# Altium footprint library Nucleo-F439ZI.PcbLib: 1 footprints
Each footprint in its own frame and in the unit in brackets; x right, y up, seen from the top. Pads: shape width x height; smd on the part's side, far side on the other; paste and mask are expansions set on the pad; w line width, h text height; cw(c..) or ccw(c..) is an arc to the next point about the centre after c.
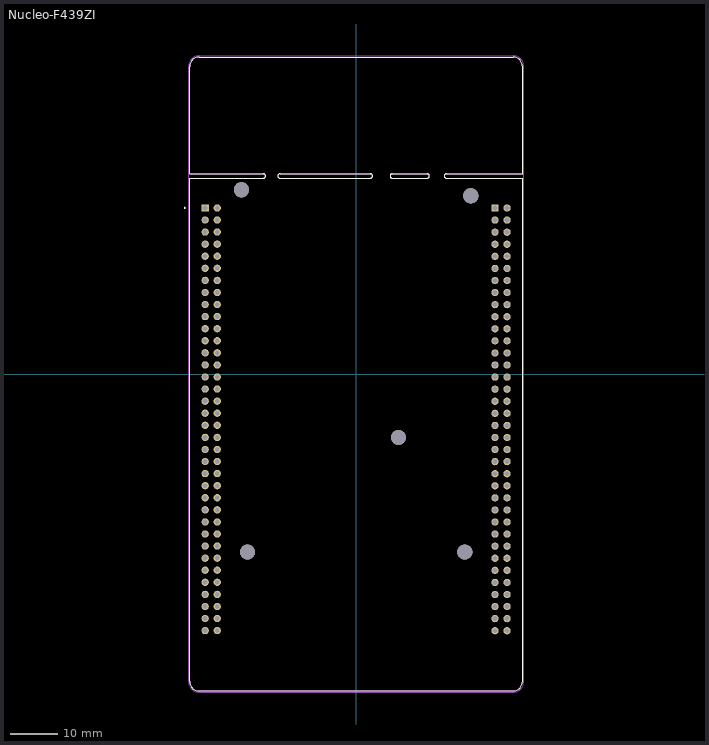
[diagram p0: the footprint, top view; thin cyan lines are the x and y axes]

## Nucleo-F439ZI [mm]
pads (149):
  rect 1.53x1.53 hole 1.02: CN11_1(-31.75,34.93) CN12_1(29.21,34.91)
  round 1.53 hole 1.02: CN11_2(-31.75,32.39) CN11_3(-31.75,29.85) CN11_4(-31.75,27.31) CN11_5(-31.75,24.77) CN11_6(-31.75,22.23) CN11_7(-31.75,19.69) CN11_8(-31.75,17.15) CN11_9(-31.75,14.61) CN11_10(-31.75,12.07) CN11_11(-31.75,9.53) CN11_12(-31.75,6.99) CN11_13(-31.75,4.45) CN11_14(-31.75,1.91) CN11_15(-31.75,-0.63) CN11_16(-31.75,-3.17) CN11_17(-31.75,-5.71) CN11_18(-31.75,-8.25) CN11_19(-31.75,-10.79) CN11_20(-31.75,-13.33) CN11_21(-31.75,-15.87) CN11_22(-31.75,-18.41) CN11_23(-31.75,-20.95) CN11_24(-31.75,-23.49) CN11_25(-31.75,-26.03) CN11_26(-31.75,-28.57) CN11_27(-31.75,-31.11) CN11_28(-31.75,-33.65) CN11_29(-31.75,-36.19) CN11_30(-31.75,-38.73) CN11_31(-31.75,-41.27) CN11_32(-31.75,-43.81) CN11_33(-31.75,-46.35) CN11_34(-31.75,-48.89) CN11_35(-31.75,-51.43) CN11_36(-31.75,-53.97) CN11_37(-29.21,34.93) CN11_38(-29.21,32.39) CN11_39(-29.21,29.85) CN11_40(-29.21,27.31) CN11_41(-29.21,24.77) CN11_42(-29.21,22.23) CN11_43(-29.21,19.69) CN11_44(-29.21,17.15) CN11_45(-29.21,14.61) CN11_46(-29.21,12.07) CN11_47(-29.21,9.53) CN11_48(-29.21,6.99) CN11_49(-29.21,4.45) CN11_50(-29.21,1.91) CN11_51(-29.21,-0.63) CN11_52(-29.21,-3.17) CN11_53(-29.21,-5.71) CN11_54(-29.21,-8.25) CN11_55(-29.21,-10.79) CN11_56(-29.21,-13.33) CN11_57(-29.21,-15.87) CN11_58(-29.21,-18.41) CN11_59(-29.21,-20.95) CN11_60(-29.21,-23.49) CN11_61(-29.21,-26.03) CN11_62(-29.21,-28.57) CN11_63(-29.21,-31.11) CN11_64(-29.21,-33.65) CN11_65(-29.21,-36.19) CN11_66(-29.21,-38.73) CN11_67(-29.21,-41.27) CN11_68(-29.21,-43.81) CN11_69(-29.21,-46.35) CN11_70(-29.21,-48.89) CN11_71(-29.21,-51.43) CN11_72(-29.21,-53.97) CN12_2(29.21,32.37) CN12_3(29.21,29.83) CN12_4(29.21,27.29) CN12_5(29.21,24.75) CN12_6(29.21,22.21) CN12_7(29.21,19.67) CN12_8(29.21,17.13) CN12_9(29.21,14.59) CN12_10(29.21,12.05) CN12_11(29.21,9.51) CN12_12(29.21,6.97) CN12_13(29.21,4.43) CN12_14(29.21,1.89) CN12_15(29.21,-0.65) CN12_16(29.21,-3.19) CN12_17(29.21,-5.73) CN12_18(29.21,-8.27) CN12_19(29.21,-10.81) CN12_20(29.21,-13.35) CN12_21(29.21,-15.89) CN12_22(29.21,-18.43) CN12_23(29.21,-20.97) CN12_24(29.21,-23.51) CN12_25(29.21,-26.05) CN12_26(29.21,-28.59) CN12_27(29.21,-31.13) CN12_28(29.21,-33.67) CN12_29(29.21,-36.21) CN12_30(29.21,-38.75) CN12_31(29.21,-41.29) CN12_32(29.21,-43.83) CN12_33(29.21,-46.37) CN12_34(29.21,-48.91) CN12_35(29.21,-51.45) CN12_36(29.21,-53.99) CN12_37(31.75,34.91) CN12_38(31.75,32.37) CN12_39(31.75,29.83) CN12_40(31.75,27.29) CN12_41(31.75,24.75) CN12_42(31.75,22.21) CN12_43(31.75,19.67) CN12_44(31.75,17.13) CN12_45(31.75,14.59) CN12_46(31.75,12.05) CN12_47(31.75,9.51) CN12_48(31.75,6.97) CN12_49(31.75,4.43) CN12_50(31.75,1.89) CN12_51(31.75,-0.65) CN12_52(31.75,-3.19) CN12_53(31.75,-5.73) CN12_54(31.75,-8.27) CN12_55(31.75,-10.81) CN12_56(31.75,-13.35) CN12_57(31.75,-15.89) CN12_58(31.75,-18.43) CN12_59(31.75,-20.97) CN12_60(31.75,-23.51) CN12_61(31.75,-26.05) CN12_62(31.75,-28.59) CN12_63(31.75,-31.13) CN12_64(31.75,-33.67) CN12_65(31.75,-36.21) CN12_66(31.75,-38.75) CN12_67(31.75,-41.29) CN12_68(31.75,-43.83) CN12_69(31.75,-46.37) CN12_70(31.75,-48.91) CN12_71(31.75,-51.45) CN12_72(31.75,-53.99)
  round 3.2 hole 3.2 unplated: ""(-24.13,38.74) ""(-22.86,-37.46) ""(8.89,-13.33) ""(22.86,-37.46) ""(24.13,37.47)
Top Overlay:
  circle w0.2: c-36.04,34.93 r0.1
  lines w0.127: -19.507,41.17 -35,41.17 -35,-64.67 ccw(c-33,-64.67) -33,-66.67 33,-66.67 ccw(c33,-64.67) 35,-64.67 35,41.17 18.999,41.17 ; -19.507,42.11 -35,42.11 -35,64.67 cw(c-33,64.67) -33,66.67 33,66.67 cw(c33,64.67) 35,64.67 35,42.11 18.999,42.11 ; -19.506,41.17 ccw(c-19.515,41.64) -19.506,42.11 ; -16.003,41.17 cw(c-15.995,41.64) -16.003,42.11 ; -16.002,41.17 2.997,41.17 ; -16.002,42.11 2.997,42.11 ; 2.998,41.17 ccw(c2.99,41.64) 2.998,42.11 ; 7.619,41.17 cw(c7.627,41.64) 7.619,42.11 ; 7.62,41.17 14.935,41.17 ; 7.62,42.11 14.935,42.11 ; 14.936,41.17 ccw(c14.928,41.64) 14.936,42.11 ; 18.998,41.17 cw(c19.007,41.64) 18.998,42.11
Mechanical 13:
  circle w0.2: c-36.04,34.93 r0.1
  lines w0.127: -19.507,41.17 -35,41.17 -35,-64.67 ccw(c-33,-64.67) -33,-66.67 33,-66.67 ccw(c33,-64.67) 35,-64.67 35,41.17 18.999,41.17 ; -19.507,42.11 -35,42.11 -35,64.67 cw(c-33,64.67) -33,66.67 33,66.67 cw(c33,64.67) 35,64.67 35,42.11 18.999,42.11 ; -19.506,41.17 ccw(c-19.515,41.64) -19.506,42.11 ; -16.003,41.17 cw(c-15.995,41.64) -16.003,42.11 ; -16.002,41.17 2.997,41.17 ; -16.002,42.11 2.997,42.11 ; 2.998,41.17 ccw(c2.99,41.64) 2.998,42.11 ; 7.619,41.17 cw(c7.627,41.64) 7.619,42.11 ; 7.62,41.17 14.935,41.17 ; 7.62,42.11 14.935,42.11 ; 14.936,41.17 ccw(c14.928,41.64) 14.936,42.11 ; 18.998,41.17 cw(c19.007,41.64) 18.998,42.11
Mechanical 15:
  lines w0.05: -35.25,-64.67 ccw(c-33,-64.67) -33,-66.92 33,-66.92 ccw(c33,-64.67) 35.25,-64.67 35.25,64.67 ccw(c33,64.67) 33,66.92 -33,66.92 ccw(c-33,64.67) -35.25,64.67 -35.25,-64.67